# Altium schematic symbol library librarySDcard.SchLib: 1 symbol
Pins are listed as number, name and electrical type; pins without a type are passive.

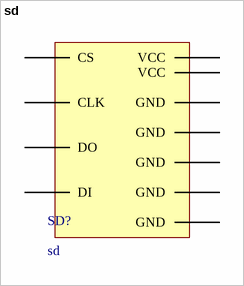
[diagram p0: symbol sd]

## sd
designator SD?
footprint Edge Connector - duplicate1
pins: 1 CS, 2 DI, 3 GND, 4 VCC, 5 CLK, 6 GND, 7 DO, 8 GND, 10 GND, 11 VCC, 12 GND